# Altium footprint library HEADER_1x8_100mil_NP.PcbLib: 1 footprints
Each footprint in its own frame and in the unit in brackets; x right, y up, seen from the top. Pads: shape width x height; smd on the part's side, far side on the other; paste and mask are expansions set on the pad; w line width, h text height; cw(c..) or ccw(c..) is an arc to the next point about the centre after c.
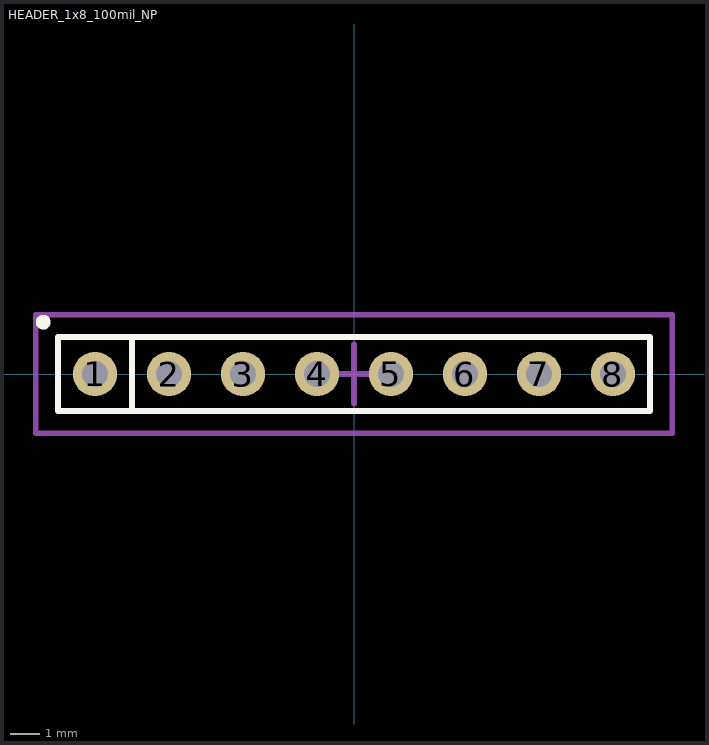
[diagram p0: the footprint, top view; thin cyan lines are the x and y axes]

## HEADER_1x8_100mil_NP [mil]
pads (8):
  round 60 hole 35: 1(-350,0) 2(-250,0) 3(-150,0) 4(-50,0) 5(50,0) 6(150,0) 7(250,0) 8(350,0)
Top Overlay:
  circle w10: c-420,70 r5
  lines w7.87: -300,-50 -300,50 ; -400,-50 400,-50 400,50 -400,50 -400,-50
Mechanical 15:
  lines w7.87: -40,0 40,0 ; 0,-40 0,40 ; -430,-80 430,-80 430,80 -430,80 -430,-80